# Altium schematic symbol library FT230XQ-R.SchLib: 1 symbol
Pins are listed as number, name and electrical type; pins without a type are passive.

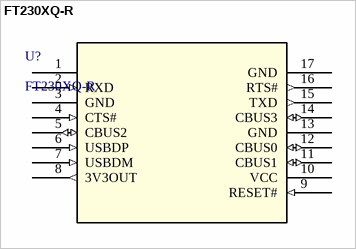
[diagram p0: symbol FT230XQ-R]

## FT230XQ-R
designator U?
Description; Manufacturer_Name: FTDI, Future Technology Devices International Ltd; Type: Interface; Copyright: Copyright (C) 2025 Ultra Librarian. All rights reserved.; Manufacturer_Part_Number: FT230XQ-R; RefDes: RefDes
footprint QFN-16_FTD
pins: 1 VCCIO (power), 2 RXD (in), 3 GND (power), 4 CTS# (in), 5 CBUS2 (io), 6 USBDP (in), 7 USBDM (in), 8 3V3OUT (out), 9 RESET# (in), 10 VCC (power), 11 CBUS1 (io), 12 CBUS0 (io), 13 GND (power), 14 CBUS3 (io), 15 TXD (out), 16 RTS# (out), 17 GND (power)